# Altium schematic symbol library SCH - INTERFACE - RS422 RS485 - THVD1551DGKR.SCHLIB: 1 symbol
Pins are listed as number, name and electrical type; pins without a type are passive.

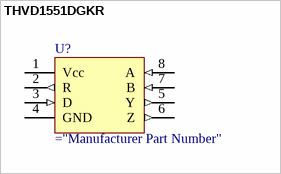
[diagram p0: symbol THVD1551DGKR]

## THVD1551DGKR
designator U?
IC, RS-485 Transceiver, full duplex, 50Mbps, 5V
pins: 1 Vcc (power), 2 R (out) "Digital output", 3 D (in) "Digital input", 4 GND (power), 5 Y (out) "Bus Output", 6 Z (out) "Transmit Data Output", 7 B (in) "Bus Input", 8 A (in) "Bus Input"